# Altium footprint library CC2592.PcbLib: 1 footprints
Each footprint in its own frame and in the unit in brackets; x right, y up, seen from the top. Pads: shape width x height; smd on the part's side, far side on the other; paste and mask are expansions set on the pad; w line width, h text height; cw(c..) or ccw(c..) is an arc to the next point about the centre after c.
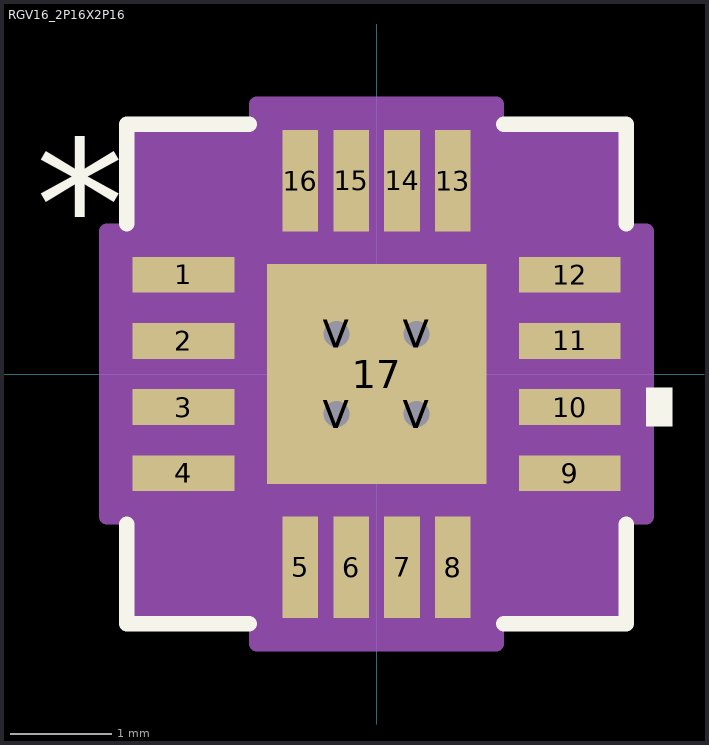
[diagram p0: the footprint, top view; thin cyan lines are the x and y axes]

## RGV16_2P16X2P16 [mm]
pads (21):
  rect 1x0.35 smd paste-0.175 mask+0: 1(-1.9,0.975) 2(-1.9,0.325) 3(-1.9,-0.325) 4(-1.9,-0.975) 9(1.9,-0.975) 10(1.9,-0.325) 11(1.9,0.325) 12(1.9,0.975)
  rect 0.35x1 smd paste-0.175 mask+0: 5(-0.75,-1.9) 6(-0.25,-1.9) 7(0.25,-1.9) 8(0.75,-1.9) 13(0.75,1.9) 14(0.25,1.9) 15(-0.25,1.9) 16(-0.75,1.9)
  rect 2.16x2.16 smd paste-1.067 mask-1.067: 17(0,0)
  round 0.508 hole 0.254: V(-0.394,-0.394) V(-0.394,0.394) V(0.394,-0.394) V(0.394,0.394)
Top Overlay:
  region: 2.654,-0.135 2.908,-0.135 2.908,-0.516 2.654,-0.516
  lines w0.152: -2.456,-1.478 -2.456,-2.456 -1.253,-2.456 ; -2.456,1.478 -2.456,2.456 -1.253,2.456 ; 1.253,-2.456 2.456,-2.456 2.456,-1.478 ; 1.253,2.456 2.456,2.456 2.456,1.478
  text "*" at -3.353,1.046 h1.27
Top Paste:
  region: -1.425,1.125 -2.375,1.125 -2.375,0.825 -1.425,0.825
  region: -1.425,0.475 -2.375,0.475 -2.375,0.175 -1.425,0.175
  region: -1.425,-0.175 -2.375,-0.175 -2.375,-0.475 -1.425,-0.475
  region: -1.425,-0.825 -2.375,-0.825 -2.375,-1.125 -1.425,-1.125
  region: -0.6,-1.425 -0.9,-1.425 -0.9,-2.375 -0.6,-2.375
  region: -0.1,-1.425 -0.4,-1.425 -0.4,-2.375 -0.1,-2.375
  region: 0.4,-1.425 0.1,-1.425 0.1,-2.375 0.4,-2.375
  region: 0.9,-1.425 0.6,-1.425 0.6,-2.375 0.9,-2.375
  region: 2.375,-0.825 1.425,-0.825 1.425,-1.125 2.375,-1.125
  region: 2.375,-0.175 1.425,-0.175 1.425,-0.475 2.375,-0.475
  region: 2.375,0.475 1.425,0.475 1.425,0.175 2.375,0.175
  region: 2.375,1.125 1.425,1.125 1.425,0.825 2.375,0.825
  region: 0.9,2.375 0.6,2.375 0.6,1.425 0.9,1.425
  region: 0.4,2.375 0.1,2.375 0.1,1.425 0.4,1.425
  region: -0.1,2.375 -0.4,2.375 -0.4,1.425 -0.1,1.425
  region: -0.6,2.375 -0.9,2.375 -0.9,1.425 -0.6,1.425
  region: -0.494,1.005 -1.005,1.005 -1.005,0.494 -0.635,0.494 -0.494,0.635
  region: -0.635,0.294 -1.005,0.294 -1.005,-0.294 -0.635,-0.294 -0.494,-0.152 -0.494,0.152
  region: -0.635,-0.494 -1.005,-0.494 -1.005,-1.005 -0.494,-1.005 -0.494,-0.635
  region: 0.294,1.005 -0.294,1.005 -0.294,0.635 -0.152,0.494 0.152,0.494 0.294,0.635
  region: 0.152,0.294 -0.152,0.294 -0.294,0.152 -0.294,-0.152 -0.152,-0.294 0.152,-0.294 0.294,-0.152 0.294,0.152
  region: 0.152,-0.494 -0.152,-0.494 -0.294,-0.635 -0.294,-1.005 0.294,-1.005 0.294,-0.635
  region: 1.005,1.005 0.494,1.005 0.494,0.635 0.635,0.494 1.005,0.494
  region: 1.005,0.294 0.635,0.294 0.494,0.152 0.494,-0.152 0.635,-0.294 1.005,-0.294
  region: 1.005,-0.494 0.635,-0.494 0.494,-0.635 0.494,-1.005 1.005,-1.005
Top Solder:
  region: -1.33,1.22 -2.47,1.22 -2.47,0.73 -1.33,0.73
  region: -1.33,0.57 -2.47,0.57 -2.47,0.08 -1.33,0.08
  region: -1.33,-0.08 -2.47,-0.08 -2.47,-0.57 -1.33,-0.57
  region: -1.33,-0.73 -2.47,-0.73 -2.47,-1.22 -1.33,-1.22
  region: -0.506,-1.33 -0.995,-1.33 -0.995,-2.47 -0.506,-2.47
  region: -0.005,-1.33 -0.495,-1.33 -0.495,-2.47 -0.005,-2.47
  region: 0.495,-1.33 0.005,-1.33 0.005,-2.47 0.495,-2.47
  region: 0.995,-1.33 0.506,-1.33 0.506,-2.47 0.995,-2.47
  region: 2.47,-0.73 1.33,-0.73 1.33,-1.22 2.47,-1.22
  region: 2.47,-0.08 1.33,-0.08 1.33,-0.57 2.47,-0.57
  region: 2.47,0.57 1.33,0.57 1.33,0.08 2.47,0.08
  region: 2.47,1.22 1.33,1.22 1.33,0.73 2.47,0.73
  region: 0.995,2.47 0.506,2.47 0.506,1.33 0.995,1.33
  region: 0.495,2.47 0.005,2.47 0.005,1.33 0.495,1.33
  region: -0.005,2.47 -0.495,2.47 -0.495,1.33 -0.005,1.33
  region: -0.506,2.47 -0.995,2.47 -0.995,1.33 -0.506,1.33
  region: -1.144,0.594 -1.144,1.144 1.144,1.144 1.144,0.594
  region: -1.144,-0.194 -1.144,0.194 1.144,0.194 1.144,-0.194
  region: -1.144,-1.144 -1.144,-0.594 1.144,-0.594 1.144,-1.144
  region: -1.144,-1.144 -1.144,1.144 -0.594,1.144 -0.594,-1.144
  region: 0.194,-1.144 0.194,1.144 -0.194,1.144 -0.194,-1.144
  region: 0.594,-1.144 0.594,1.144 1.144,1.144 1.144,-1.144
Mechanical 13:
  lines w0.025: -2.075,0.805 -0.805,2.075 ; -2.075,-2.075 2.075,-2.075 2.075,2.075 -2.075,2.075 -2.075,-2.075
  text "*" at -1.463,0.665 h1.27
Mechanical 15:
  region: -1.179,-2.329 -2.329,-2.329 -2.329,-1.404 -2.654,-1.404 -2.654,1.404 -2.329,1.404 -2.329,2.329 -1.179,2.329 -1.179,2.654 1.179,2.654 1.179,2.329 2.329,2.329 2.329,1.404 2.654,1.404 2.654,-1.404 2.329,-1.404 2.329,-2.329 1.179,-2.329 1.179,-2.654 -1.179,-2.654
  lines w0.152: -2.654,-1.404 -2.329,-1.404 -2.329,-2.329 -1.179,-2.329 -1.179,-2.654 1.179,-2.654 1.179,-2.329 2.329,-2.329 2.329,-1.404 2.654,-1.404 2.654,1.404 2.329,1.404 2.329,2.329 1.179,2.329 1.179,2.654 -1.179,2.654 -1.179,2.329 -2.329,2.329 -2.329,1.404 -2.654,1.404 -2.654,-1.404
3D body: height 0.25, standoff 0, extent 0,0 0.254,0.254
3D body "RGV16_2P16X2P16.stp": height 1, standoff 0, extent -2.126,-2.126 2.126,2.126